# Altium schematic symbol library Schematic_library.SchLib: 26 symbols
Pins are listed as number, name and electrical type; pins without a type are passive.

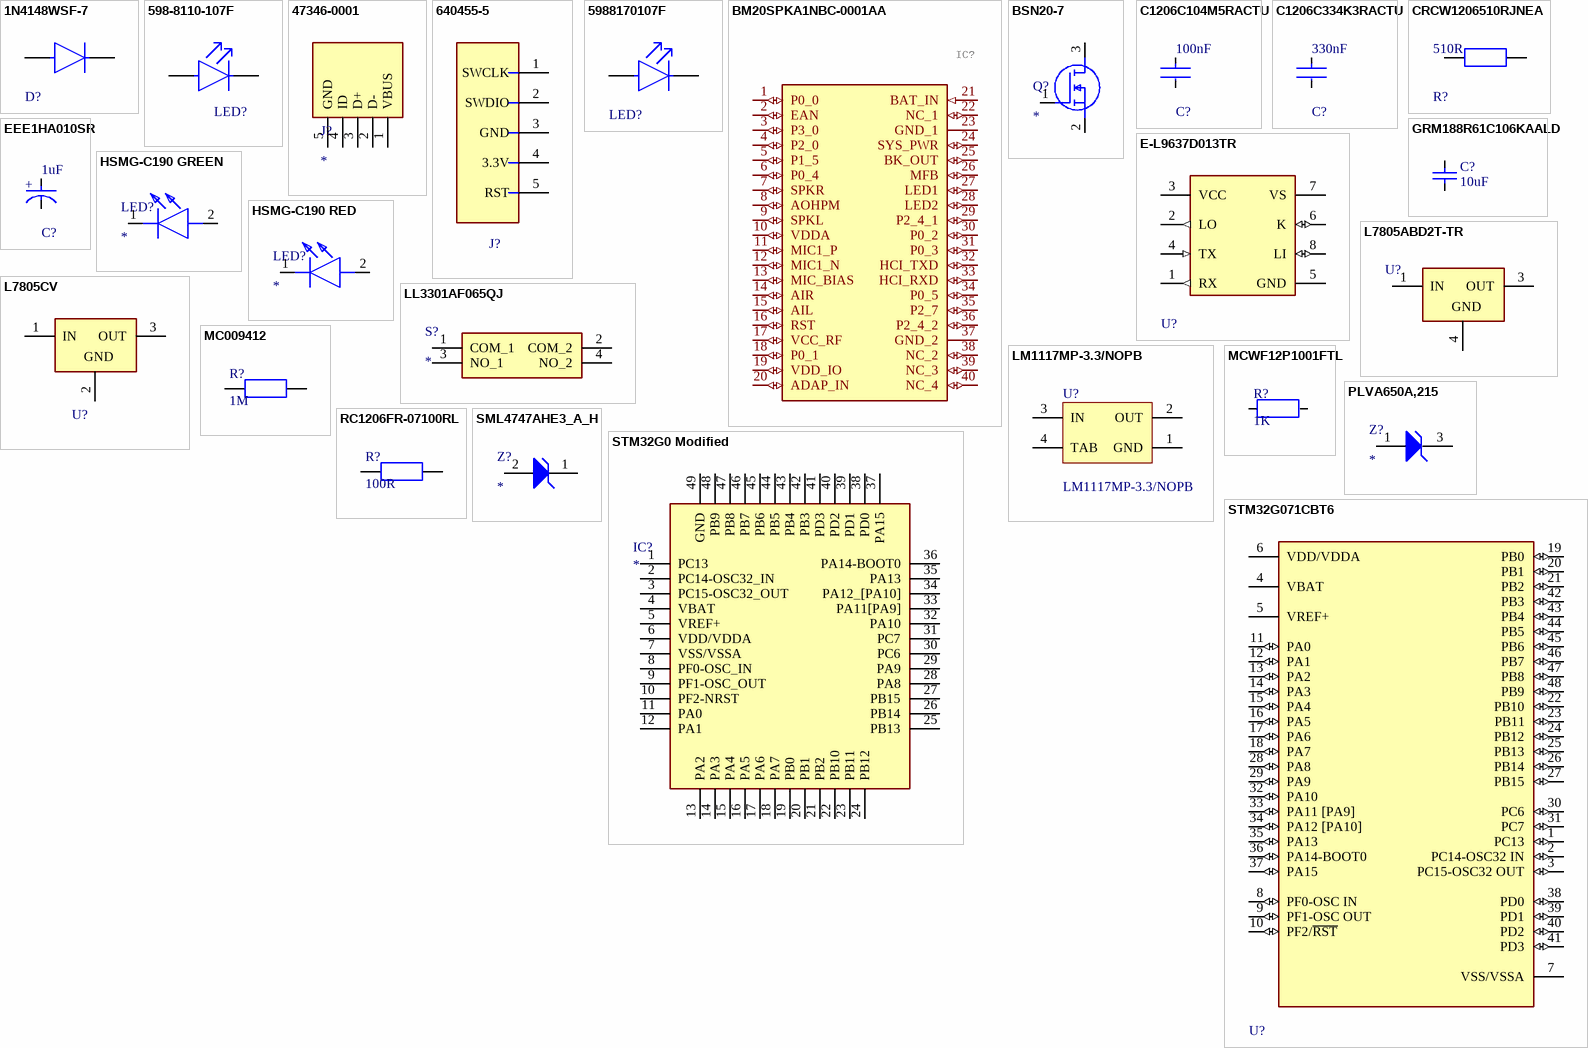
[diagram p0: symbols 1N4148WSF-7 to STM32G071CBT6]

## 1N4148WSF-7
designator D?  (value not drawn)
Small Signal Diode, 100 V, 250 mA; Manufacturer: DIODES INC; Manufacturer Part Number: 1N4148WSF-7; Supplier 1: Farnell; Supplier Part Number: 3127172; Mounting: SMD; ComponentLink1Description: Datasheet; ComponentLink1URL: https://www.farnell.com/datasheets/2705170.pdf
footprint Diodes_Inc._SOD323F_MFG
pins: 1 C, 2 A

## 598-8110-107F
designator LED?  (value not drawn)
Red LED; Manufacturer: DIALIGHT; Manufacturer Part Number: 5988110107F; Supplier 1: Farnell; Supplier Part Number: 1465992; Mounting: SMD; ComponentLink1Description: Datasheet; ComponentLink1URL: https://www.farnell.com/datasheets/1484480.pdf
footprint Dialight_598_0
pins: 1 C, 2 A

## 47346-0001
designator J?
USB Type B connector; Manufacturer: Molex; Manufacturer Part Number: 47346-0001; Supplier 1: Farnell; Supplier Part Number: 1568026; Mounting: SMD; ComponentLink1Description: Datasheet; ComponentLink1URL: https://www.farnell.com/datasheets/2701231.pdf
footprint 47346-0001
pins: 1 VBUS, 2 D-, 3 D+, 4 ID, 5 GND

## 640455-5
designator J?  (value not drawn)
ST-LINK
footprint Tyco_640455-5_0
pins: 1       SWCLK, 2 SWDIO, 3 GND, 4 3.3V, 5 RST

## 5988170107F
designator LED?  (value not drawn)
Green LED; Manufacturer: DIALIGHT; Manufacturer Part Number: 5988170107F; Supplier 1: Farnell; Supplier Part Number: 1465996; Mounting: SMD; ComponentLink1Description: Datasheet; ComponentLink1URL: https://www.farnell.com/datasheets/1484480.pdf
footprint Dialight_0_MFG
pins: 1 C, 2 A

## BM20SPKA1NBC-0001AA
designator IC?
Bluetooth Module, Class 2, BLE 5.0; Manufacturer: Microchip; Manufacturer Part Number: BM20SPKA1NBC-0001AA; Supplier 1: Farnell; Supplier Part Number: 3580727; Mounting: SMD; ComponentLink1Description: Datasheet; ComponentLink1URL: https://4donline.ihs.com/images/VipMasterIC/IC/MCHP/MCHP-S-A0008919503/MCHP-S-A0008920188-1.pdf?hkey=6D3A4C79FDBF58556ACFDE234799DDF0
footprint BM20SPKA1NBC0001AA
pins: 1 P0_0 (io), 2 EAN (io), 3 P3_0 (io), 4 P2_0 (io), 5 P1_5 (io), 6 P0_4 (io), 7 SPKR (io), 8 AOHPM (io), 9 SPKL (io), 10 VDDA (io), 11 MIC1_P (io), 12 MIC1_N (io), 13 MIC_BIAS (io), 14 AIR (io), 15 AIL (io), 16 RST (io), 17 VCC_RF (io), 18 P0_1 (io), 19 VDD_IO (io), 20 ADAP_IN (io), 21 BAT_IN (in), 22 NC_1 (io), 23 GND_1, 24 SYS_PWR (io), 25 BK_OUT (io), 26 MFB (io), 27 LED1 (io), 28 LED2 (io), 29 P2_4_1 (io), 30 P0_2 (io), 31 P0_3 (io), 32 HCI_TXD (io), 33 HCI_RXD (io), 34 P0_5 (io), 35 P2_7 (io), 36 P2_4_2 (io), 37 GND_2, 38 NC_2 (io), 39 NC_3 (io), 40 NC_4 (io)

## BSN20-7
designator Q?
MOSFET (N-Channel); Manufacturer: DIODES INC; Manufacturer Part Number: BSN20BKR; Supplier 1: Farnell; Supplier Part Number: 2575103; Mounting: SMD; ComponentLink1Description: Datasheet; ComponentLink1URL: https://www.diodes.com/assets/Datasheets/ds31898.pdf
footprint SOT96P240X110-3N
pins: 1 G, 2 S, 3 D

## C1206C104M5RACTU
designator C?, comment 100nF
Kemet C1206, 100nF, 50VDC, X7R; Manufacturer Part Number: C1206C104M5RACTU; Voltage: 50V; Tolerance: ± 20%; ComponentLink1Description: Datasheet; ComponentLink1URL: https://api.kemet.com/component-edge/download/specsheet/C1206C104M5RACTU.pdf; Value: 100nF; Package: 1206 [3216 Metric]; Manufacturer: Kemet; Supplier 1: Farnell; Supplier Part Number: 2581103; Dielectric: X7R; Mounting: SMD; Part Type: MLCC
footprint KEMET_C1206C-EB_IPC_B
pins: 1, 2

## C1206C334K3RACTU
designator C?, comment 330nF
Kemet C1206, 330nF, 25VDC, X7R; Manufacturer Part Number: C1206C334K3RACTU; Voltage: 25V; Tolerance: ± 10%; Value: 330nF; Package: 1206 [3216 Metric]; Manufacturer: Kemet; Supplier 1: Farnell; ComponentLink1Description: Datasheet; ComponentLink1URL: https://api.kemet.com/component-edge/download/specsheet/C1206C334K3RACTU.pdf; Supplier Part Number: 2392415; Dielectric: X7R; Mounting: SMD; Part Type: MLCC
footprint KEMET_C1206C-EB_IPC_B
pins: 1, 2

## CRCW1206510RJNEA
designator R?, comment 510R
Resistor C1206, 510ohm, 5%, 1/4W; Manufacturer: Vishay; Manufacturer Part Number: CRCW1206510RJNEA; Voltage: 200V; Power: 250mW; Value: 510R; Package: 1206 [3216 Metric]; ComponentLink1Description: Datasheet; ComponentLink1URL: https://www.farnell.com/datasheets/2111203.pdf; Supplier 1: Farnell; Supplier Part Number: 1540041; Tolerance: ± 5%; Part Type: Thick Film; Mounting: SMD
footprint Vishay_CRCW1206-e3_IPC_B
pins: 1, 2

## E-L9637D013TR
designator U?  (value not drawn)
Bidirectional Serial Communication in Automotive Diagnostic System; Manufacturer: STMicroelectronics; Manufacturer Part Number: E-L9637D013TR; ComponentLink1Description: Datasheet; ComponentLink1URL: https://www.farnell.com/datasheets/2815827.pdf; Supplier 1: Farnell; Supplier Part Number: 3130050; Mounting: SMD
footprint STMicroelectronics_SO8-0016023_IPC_A
pins: 1 RX (out), 2 LO (out), 3 VCC (power), 4 TX (in), 5 GND (power), 6 K (io), 7 VS (power), 8 LI (io)

## EEE1HA010SR
designator C?, comment 1uF
1uF electrolytic capacitor; Manufacturer: Panasonic; Manufacturer Part Number: EEE1HA010SR; Voltage: 50V; Tolerance: ± 20%; Value: 1uF; Package: Radial Can; Supplier 1: Farnell; Supplier Part Number: 9697063; Mounting: SMD; Part Type: AEC; ComponentLink1Description: Datasheet; ComponentLink1URL: https://www.farnell.com/datasheets/2820389.pdf
footprint Panasonic_SB_MFG
pins: 1 C, 2 A
text: +

## GRM188R61C106KAALD
designator C?, comment 10uF
CAP MLCC, 10uF, 16V, 0603 [1608 Metric], ±10%, X5R; Manufacturer: MURATA; Manufacturer Part Number: GRM188R61C106KAALD; Value: 10uF; Package: 0603 [1608 Metric]; Supplier 1: Farnell; Supplier Part Number 1: 2611923; ComponentLink1Description: Datasheet; ComponentLink1URL: https://4donline.ihs.com/images/VipMasterIC/IC/MURE/MURE-S-A0004349797/MURE-S-A0004352506-1.pdf?hkey=6D3A4C79FDBF58556ACFDE234799DDF0; Voltage: 16V; Tolerance: ± 10%; Dielectric: X5R; Mounting: SMD; Part Type: MLCC
footprint CAPC1608N (Chip Capacitor, Body 1.6x0.8mm, Height 0.55mm, IPC Medium Density)
pins: 1, 2

## HSMG-C190 GREEN
designator LED?
LED; Manufacturer: Avago Technologies; Manufacturer Part Number: HSMG-C190; Voltage: 2.2V; Color: Green; Supplier 1: Farnell; Supplier Part Number: 2497374; Mounting: SMD; ComponentLink1Description: Datasheet; ComponentLink1URL: https://www.farnell.com/datasheets/1681524.pdf
footprint LEDC1608X90N
pins: 1 K, 2 A

## HSMG-C190 RED
designator LED?
LED; Manufacturer: Avago Technologies; Manufacturer Part Number: HSMG-C190; Voltage: 2.2V; Color: Red; Supplier 1: Farnell; Supplier Part Number: 2497374; Mounting: SMD; ComponentLink1Description: Datasheet; ComponentLink1URL: https://www.farnell.com/datasheets/1681524.pdf
footprint LEDC1608X90N
pins: 1 K, 2 A

## L7805ABD2T-TR
designator U?  (value not drawn)
Fixed Linear Voltage Regulator; Manufacturer: STMicroelectronics; Manufacturer Part Number: L7805ABD2T-TR; Supplier 1: Farnell; Supplier Part Number: 1366571; Mounting: SMD; ComponentLink1Description: Datasheet; ComponentLink1URL: https://www.farnell.com/datasheets/1805459.pdf
footprint D2PAK-STB35NF10T4
pins: 1 IN, 3 OUT, 4 GROUND
text: GND

## L7805CV
designator U?  (value not drawn)
footprint STMicroelectronics_TO-220-3_0
pins: 1 IN, 2 GROUND, 3 OUT
text: GND

## LL3301AF065QJ
designator S?
Switch; Manufacturer: E-SWITCH; Manufacturer Part Number: LL3301AF065QJ; Supplier 1: Mouser; Supplier Part Number: 612-LL3301AF065QJ; Mounting: SMD; ComponentLink1Description: Datasheet; ComponentLink1URL: https://eu.mouser.com/datasheet/2/140/ESCH_S_A0009406866_1-2548477.pdf
footprint LL3301FF065QJ
pins: 1 COM_1, 2 COM_2, 3 NO_1, 4 NO_2

## LM1117MP-3.3/NOPB
designator U?
800mA Low-Dropout Linear Regulator, 4-pin SOT-223, Pb-Free; Manufacturer: Texas Instruments; ComponentLink1Description: Datasheet; Manufacturer Part Number: LM1117MP-3.3/NOPB; ComponentLink1URL: http://www.national.com/ds/LM/LM1117.pdf; Supplier 1: Farnell; Supplier Part Number: 3007502; Mounting: SMD
footprint MP04A_N (SOT223, 4-Leads, Body 6.5x3.5mm, Pitch 2.3mm, Lead Span 7mm, IPC Medium Density)
pins: 1 GND (power), 2 OUT (power), 3 IN (power), 4 TAB (power)

## MC009412
designator R?, comment 1M
RES 1M, ±0,1%, 125mW, 150V, 1206 [3216 Metric], Thin Film; Manufacturer: MULTICOMP PRO; Manufacturer Part Number: MC009412; Tolerance: ± 0,1%; Value: 1M; Supplier 1: Farnell; Supplier Part Number 1: 2988394; Power: 125mW; Voltage: 150V; Package: 1206 [3216 Metric]; Part Type: Thin Film; ComponentLink1Description: Datasheet; ComponentLink1URL: https://www.farnell.com/datasheets/2861105.pdf; Mounting: SMD
footprint RESC3216N (Chip Resistor, Body 3.2x1.6mm, IPC Medium Density)
pins: 1, 2
1 alternate drawing of the same symbol

## MCWF12P1001FTL
designator R?, comment 1K
RES 1K, ±1%, 500mW, 200V, 1206 [3216 Metric], Thick Film; Manufacturer: MULTICOMP PRO; Manufacturer Part Number: MCWF12P1001FTL; Value: 1K; Supplier 1: Farnell; Supplier Part Number 1: 2694437; Voltage: 200V; Power: 500mW; Tolerance: ± 1%; Package: 1206 [3216 Metric]; Part Type: Thick Film; ComponentLink1Description: Datasheet; ComponentLink1URL: http://www.farnell.com/datasheets/2864033.pdf; Mounting: SMD
footprint RESC3216N (Chip Resistor, Body 3.2x1.6mm, IPC Medium Density)
pins: 1, 2
1 alternate drawing of the same symbol

## PLVA650A,215
designator Z?
Zener Diode; Manufacturer: Nexperia; Manufacturer Part Number: PLVA650A,215; Voltage: 5V; Supplier 1: Farnell; Supplier Part Number: 2463607; ComponentLink1Description: Datasheet; ComponentLink1URL: https://www.farnell.com/datasheets/3154502.pdf
footprint SOT95P230X110-3N
pins: 1 ANODE, 3 CATHODE

## RC1206FR-07100RL
designator R?, comment 100R
RES 100R, ±1%, 250mW, 200V, 1206 [3216 Metric], Thick Film; Manufacturer: YAGEO; Manufacturer Part Number: RC1206FR-07100RL; Value: 100R; Supplier 1: Farnell; Supplier Part Number 1: 9240888; Tolerance: ± 1%; Power: 250mW; Voltage: 200V; Package: 1206 [3216 Metric]; Part Type: Thick Film; ComponentLink1Description: Datasheet; ComponentLink1URL: http://www.farnell.com/datasheets/2167052.pdf; Mounting: SMD
footprint RESC3216N (Chip Resistor, Body 3.2x1.6mm, IPC Medium Density)
pins: 1, 2
1 alternate drawing of the same symbol

## SML4747AHE3_A_H
designator Z?
Zener Diode; Manufacturer: Vishay; Manufacturer Part Number: SML4747AHE3_A/H; Voltage: 20V; Supplier 1: Farnell; Supplier Part Number: 3818758; ComponentLink1Description: Datasheet; ComponentLink1URL: https://4donline.ihs.com/images/VipMasterIC/IC/VISH/VISH-S-A0012939441/VISH-S-A0013145027-1.pdf?hkey=6D3A4C79FDBF58556ACFDE234799DDF0
footprint DIONM5127X229N
pins: 1 K, 2 A

## STM32G0 Modified
designator IC?
Integrated Circuit; Manufacturer: STMicroelectronics; Manufacturer Part Number: STM32G071CBU6; Supplier 1: Mouser; Supplier Part Number: 511-STM32G071CBU6; ComponentLink1Description: Datasheet; ComponentLink1URL: https://www.mouser.co.uk/datasheet/2/389/dm00412180-1799303.pdf
footprint QFN50P700X700X60-49N-D
pins: 1 PC13, 2 PC14-OSC32_IN, 3 PC15-OSC32_OUT, 4 VBAT, 5 VREF+, 6 VDD/VDDA, 7 VSS/VSSA, 8 PF0-OSC_IN, 9 PF1-OSC_OUT, 10 PF2-NRST, 11 PA0, 12 PA1, 13 PA2, 14 PA3, 15 PA4, 16 PA5, 17 PA6, 18 PA7, 19 PB0, 20 PB1, 21 PB2, 22 PB10, 23 PB11, 24 PB12, 25 PB13, 26 PB14, 27 PB15, 28 PA8, 29 PA9, 30 PC6, 31 PC7, 32 PA10, 33 PA11[PA9], 34 PA12_[PA10], 35 PA13, 36 PA14-BOOT0, 37 PA15, 38 PD0, 39 PD1, 40 PD2, 41 PD3, 42 PB3, 43 PB4, 44 PB5, 45 PB6, 46 PB7, 47 PB8, 48 PB9, 49 GND

## STM32G071CBT6
designator U?  (value not drawn)
footprint STMicroelectronics_LQFP48-5B_IPC_A
pins: 1 PC13 (io), 2 PC14-OSC32 IN (io), 3 PC15-OSC32 OUT (io), 4 VBAT (power), 5 VREF+ (power), 6 VDD/VDDA (power), 7 VSS/VSSA (power), 8 PF0-OSC IN (io), 9 PF1-OSC OUT (io), 10 PF2/~{RST} (io), 11 PA0 (io), 12 PA1 (io), 13 PA2 (io), 14 PA3 (io), 15 PA4 (io), 16 PA5 (io), 17 PA6 (io), 18 PA7 (io), 19 PB0 (io), 20 PB1 (io), 21 PB2 (io), 22 PB10 (io), 23 PB11 (io), 24 PB12 (io), 25 PB13 (io), 26 PB14 (io), 27 PB15 (io), 28 PA8 (io), 29 PA9 (io), 30 PC6 (io), 31 PC7 (io), 32 PA10 (io), 33 PA11 [PA9] (io), 34 PA12 [PA10] (io), 35 PA13 (io), 36 PA14-BOOT0 (io), 37 PA15 (io), 38 PD0 (io), 39 PD1 (io), 40 PD2 (io), 41 PD3 (io), 42 PB3 (io), 43 PB4 (io), 44 PB5 (io), 45 PB6 (io), 46 PB7 (io), 47 PB8 (io), 48 PB9 (io)